# Altium footprint library PLM61495QRPHRQ1.PcbLib: 1 footprints
Each footprint in its own frame and in the unit in brackets; x right, y up, seen from the top. Pads: shape width x height; smd on the part's side, far side on the other; paste and mask are expansions set on the pad; w line width, h text height; cw(c..) or ccw(c..) is an arc to the next point about the centre after c.
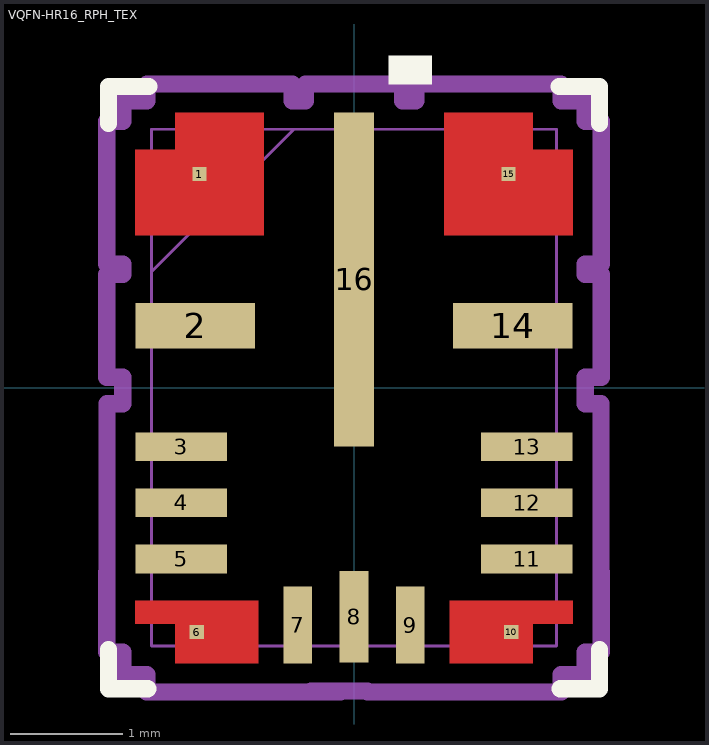
[diagram p0: the footprint, top view; thin cyan lines are the x and y axes]

## VQFN-HR16_RPH_TEX [mil]
pads (16):
  rect 5x5 smd paste-2.5 mask-2.5: 1(-54.13,74.8) 6(-55.12,-85.63) 10(55.12,-85.63) 15(54.13,74.8)
  rect 42x16 smd paste-21 mask-21: 2(-55.63,21.65) 14(55.63,21.65)
  rect 32x10 smd paste-5 mask+0: 3(-60.55,-20.67) 4(-60.55,-40.35) 5(-60.55,-60.04) 11(60.55,-60.04) 12(60.55,-40.35) 13(60.55,-20.67)
  rect 10x27 smd paste-13.5 mask-13.5: 7(-19.68,-83.19) 9(19.68,-83.19)
  rect 10x32 smd paste-5 mask+0: 8(0,-80.24)
  rect 14x117 smd paste-58.5 mask-58.5: 16(0,37.91)
Top Layer:
  region: -31.63,96.3 -31.63,53.3 -76.63,53.3 -76.63,83.3 -62.55,83.3 -62.55,96.3
  region: 31.63,96.3 31.63,53.3 76.63,53.3 76.63,83.3 62.55,83.3 62.55,96.3
  region: -33.62,-96.63 -33.62,-74.63 -76.62,-74.63 -76.62,-82.63 -62.62,-82.63 -62.62,-96.63
  region: 33.62,-96.63 33.62,-74.63 76.62,-74.63 76.62,-82.63 62.62,-82.63 62.62,-96.63
Top Overlay:
  region: 27.18,106.24 12.19,106.24 12.19,116.24 27.18,116.24
  lines w6: -86,-91.77 -86,-105.5 -72.26,-105.5 ; -86,92.46 -86,105.5 -71.88,105.5 ; 71.88,105.5 86,105.5 86,92.46 ; 72.26,-105.5 86,-105.5 86,-91.77
Top Paste:
  region: -33.62,-96.63 -33.62,-74.63 -76.62,-74.63 -76.62,-82.63 -62.62,-82.63 -62.62,-96.63
  region: 33.62,-96.63 33.62,-74.63 76.62,-74.63 76.62,-82.63 62.62,-82.63 62.62,-96.63
  region: 31.63,96.3 31.63,53.3 76.63,53.3 76.63,83.3 62.55,83.3 62.55,96.3
  region: -31.63,96.3 -31.63,53.3 -76.63,53.3 -76.63,83.3 -62.55,83.3 -62.55,96.3
Top Solder:
  region: -33.62,-96.63 -33.62,-74.63 -76.62,-74.63 -76.62,-82.63 -62.62,-82.63 -62.62,-96.63
  region: 33.62,-96.63 33.62,-74.63 76.62,-74.63 76.62,-82.63 62.62,-82.63 62.62,-96.63
  region: 31.63,96.3 31.63,53.3 76.63,53.3 76.63,83.3 62.55,83.3 62.55,96.3
  region: -31.63,96.3 -31.63,53.3 -76.63,53.3 -76.63,83.3 -62.55,83.3 -62.55,96.3
Mechanical 13:
  lines w1: -71,40.5 -21,90.5 ; -71,-90.5 -71,90.5 71,90.5 71,-90.5 -71,-90.5
Mechanical 15:
  lines w6: -86.63,3.65 -81,3.65 -81,-5.67 -86.55,-5.67 -86.55,-64.63 -86.62,-64.63 -86.62,-92.63 -81,-92.63 -81,-100.5 -72.62,-100.5 -72.62,-106.63 -23.62,-106.63 -23.62,-106.69 -4.68,-106.69 -15,-106.24 4.68,-106.24 4.68,-106.69 23.62,-106.69 23.62,-106.63 72.62,-106.63 72.62,-100.5 81,-100.5 81,-92.63 86.62,-92.63 86.62,-64.63 86.55,-64.63 86.55,-5.67 81,-5.67 81,3.65 86.63,3.65 86.63,39.65 81,39.65 81,43.3 86.63,43.3 86.63,93.3 81,93.3 81,100.5 72.55,100.5 72.55,106.3 21.63,106.3 21.63,100.5 17,100.5 17,106.41 -17,106.41 -17,100.5 -21.63,100.5 -21.63,106.3 -72.55,106.3 -72.55,100.5 -81,100.5 -81,93.3 -86.63,93.3 -86.63,43.3 -81,43.3 -81,39.65 -86.63,39.65 -86.63,3.65